# Altium schematic symbol library misc.SchLib: 25 symbols
Pins are listed as number, name and electrical type; pins without a type are passive.

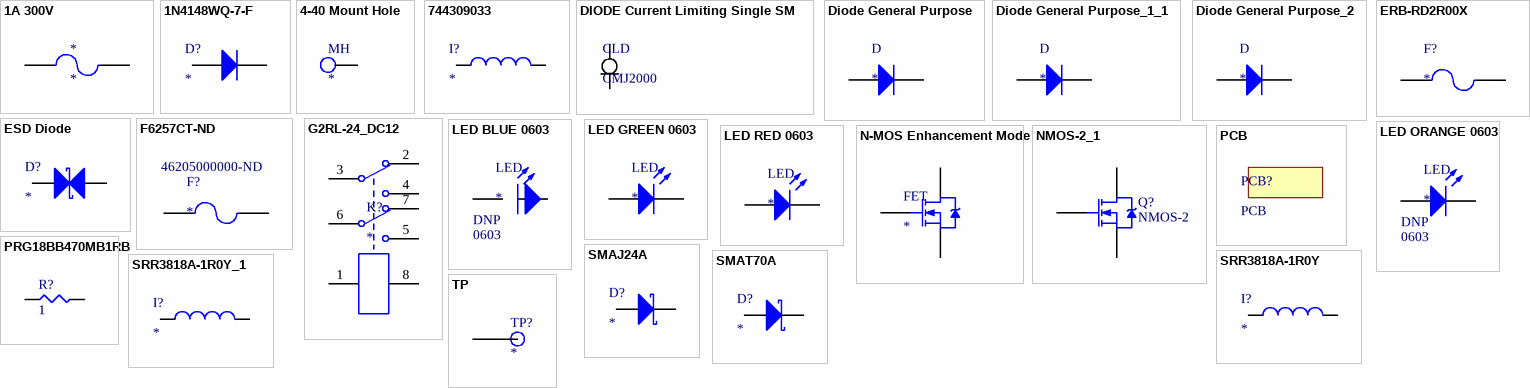
[diagram p0: symbols 1A 300V to TP]

## 1A 300V
designator *
ComponentLink1Description: Manufacturer Data Sheet; ComponentLink1URL: http://www.littelfuse.com/~/media/electronics/datasheets/fuses/littelfuse_fuse_462_datasheet.pdf.pdf; ComponentLink2Description: Digikey; ComponentLink2URL: https://www.digikey.com/product-detail/en/littelfuse-inc/46211000000/F6007CT-ND/4146345
footprint SMD-1206-RES
pins: 1, 2

## 1N4148WQ-7-F
designator D?
Diodes - General Purpose, Power, Switching SMT Fast Switching Diode; Manufacturer P/N: 1N4148WQ-7-F; Manufacturer: Diodes Inc.; Digikey Link: https://www.digikey.com/product-detail/en/diodes-incorporated/1N4148WQ-7-F/1N4148WQ-7-FDITR-ND/8136126; Digikey P/N: 1N4148WQ-7-FDITR-ND
footprint SODFL370X100-2N (SODFL, 2-Leads, Body 1.55x3.70mm, IPC Medium Density)
footprint INDM3838X18N (Molded Inductor, 2-Leads, Body 3.80x3.80mm, IPC Medium Density)
pins: 1 A, 2 K

## 4-40 Mount Hole
designator MH
footprint MH (#10 Mount Hole)
pins: 46

## 744309033
designator I?
FIXED IND 330NH 47.5A 0.165 MOHM; Manufacturer: Wurth; Manufacturer P/N: 744309033; Digikey Link: https://www.digikey.com/product-detail/en/wurth-electronics-inc/744309033/732-3006-1-ND/2626130; Digikey P/N: 732-3006-1-ND
footprint INDM140130X90N (Molded Inductor, 2-Leads, Body 14.00x13.00mm, IPC Medium Density)
pins: 1, 2

## DIODE Current Limiting Single SM
designator CLD, comment CMJ2000
DIODE CURRENT LIMITING SINGLE SM; Manufacturer: Central Semiconductor Corp; Manufacturer P/N: CMJ2000 TR; Vin Max: 100V; Current Output: 2mA; Do Not Populate: *; ComponentLink1Description: Digikey; ComponentLink1URL: https://www.digikey.com/product-detail/en/central-semiconductor-corp/CMJ2000-TR/CMJ2000CT-ND/5018676; Package / Case: SOD-123F; Digikey P/N: CMJ2000CT-ND
footprint SODFL350X80-2N (SODFL, 2-Leads, Body 1.60x3.50mm, IPC Medium Density)
pins: 1, 2

## Diode General Purpose
designator D
DIODE GEN PURP REV 1.6KV 300A DO9; Manufacturer: GeneSic Semiconductor; Manufacturer P/N: S300YR; Digikey P/N: 1242-1080-ND; Package / Case: DO-205AB, DO-9, Stud; Do Not Populate: *; ComponentLink1Description: Digikey; ComponentLink1URL: https://www.digikey.com/product-detail/en/genesic-semiconductor/S300YR/1242-1080-ND/3594361
pins: 1 A, 2 K

## Diode General Purpose_1_1
designator D
DIODE GEN PURP 100V 150MA SOD123; Manufacturer: Micro Commercial Co; Manufacturer P/N: 1N4148W-TP; ComponentLink1Description: Digikey; ComponentLink1URL: https://www.digikey.com/product-detail/en/micro-commercial-co/1N4148W-TP/1N4148WTPMSTR-ND/717196; Digikey P/N: 1N4148WTPMSTR-ND; Package / Case: SOD123; Do Not Populate: *
footprint SODFL370X135-2N (SODFL, 2-Leads, Body 1.60x3.70mm, IPC Medium Density)
pins: 1 A, 2 K

## Diode General Purpose_2
designator D
DIODE GEN PURP 20V 350MA SOD323; Manufacturer: Diodes Incorporated; Manufacturer P/N: SD103CWS-7-F; Digikey P/N: SD103CWS-FDIDKR-ND; Package / Case: SOD323; Do Not Populate: *; ComponentLink1Description: Digikey; ComponentLink1URL: https://www.digikey.com/product-detail/en/diodes-incorporated/SD103CWS-7-F/SD103CWS-FDIDKR-ND/1836772; ComponentLink2Description: Datasheet; ComponentLink2URL: https://www.diodes.com/assets/Datasheets/ds30101.pdf; ComponentLink3Description: Dimensions; ComponentLink3URL: https://www.diodes.com/assets/Package-Files/SOD323.pdf
footprint SODFL250X110-2N (SODFL, 2-Leads, Body 1.30x2.50mm, IPC Medium Density)
pins: 1 A, 2 K

## ERB-RD2R00X
designator F?
FUSE BOARD MOUNT 2A 32VDC 0402; Manufacturer: Panasonic; Manufacturer P/N: ERB-RD2R00X; Digikey P/N: P15123TR-ND; Digikey Link: https://www.digikey.com/product-detail/en/panasonic-electronic-components/ERB-RD2R00X/P15123TR-ND/2796785
footprint SMD-0402-RES
pins: 1, 2

## ESD Diode
designator D?
ESD Supressor; Manufacturer P/N: Panasonic; Manufacturer: EZAEG; Digikey P/N: P13571CT-ND; Digikey Link: https://www.digikey.com/product-detail/en/panasonic-electronic-components/EZA-EG2A50AX/P13571CT-ND/1137239
footprint SMD-0402-RES
pins: 1 A, 2 K

## F6257CT-ND
designator F?  Supplier Part Number 1: 46205000000-ND
FUSE BOARD MNT 500MA 350VAC/VDC; Manufacturer: Littelfuse; Manufacturer P/N: 46205000000; Voltage Rating (AC): 350V; Voltage Rating (DC): 250V; DC Cold Resistance: 227mR; Power Dissipation: 200W; Fuse Type: Board Mount (Cartridge Style Excluded); Approvals: UL,UMF; Digikey P/N: F6257CT-ND; Digikey Link: https://www.digikey.com/product-detail/en/littelfuse-inc/46205000000/F6257CT-ND/4331764; Supplier 1: Digi-Key; Manufacturer Part Number: 46205000000; Stock 1: 0; Mount: Surface Mount; Case/Package: SMD/SMT; Housing Material: Plastic; Min Operating Temperature: -40°C; Max Operating Temperature: 85°C; Package Quantity: 1500; Packaging: Tape and Reel; Current Rating: 500mA; Length: 10.5mm; Height: 0.177inch; Width: 0.177inch; Depth: 4.5mm; Lead Free: Lead Free; ComponentLink1URL: http://www.littelfuse.com/~/media/electronics/datasheets/fuses/littelfuse_fuse_462_datasheet.pdf.pdf?src-supplier=Digi-Key; ComponentLink1Description: http://www.littelfuse.com/~/media/electronics/datasheets/fuses/littelfuse_fuse_462_datasheet.pdf.pdf?src-supplier=Digi-Key; ComponentLink2URL: http://www.mouser.com/ds/2/240/Littelfuse_Fuse_462-33205.pdf?src-supplier=Mouser; ComponentLink2Description: http://www.mouser.com/ds/2/240/Littelfuse_Fuse_462-33205.pdf?src-supplier=Mouser; ComponentLink3URL: http://www.littelfuse.com/data/en/Data_Sheets/Littelfuse_Fuse_462.pdf?src-supplier=Digi-Key; ComponentLink3Description: http://www.littelfuse.com/data/en/Data_Sheets/Littelfuse_Fuse_462.pdf?src-supplier=Digi-Key
footprint F6257CT-ND (FUSE BOARD MNT 500MA 350VAC/VDC)
pins: 1, 2

## G2RL-24_DC12
designator K?
RELAY GEN PURPOSE DPDT 8A 12V; Manufacturer: Omron Electronics; Manufacturer P/N: G2RL-24 DC12; Digikey Link: https://www.digikey.com/product-detail/en/omron-electronics-inc-emc-div/G2RL-24-DC12/Z147-ND/307667; Digikey P/N: Z147-ND
footprint G2RL
pins: 1, 2, 3, 4, 5, 6, 7, 8

## LED BLUE 0603
designator LED  Package / Case: 0603
A-0603UBC; Manufacturer: Lighthouse LEDs; Minimum Quantity: 1; Unit Price (USD): 0.20; Manufacturer P/N: A-0603UBC; Color: BLUE; Datasheets: https://lighthouseleds.com/downloads/dl/file/id/10/0603_blue_smd_led_datasheet.pdf; Availability: In Stock; ComponentLink1Description: Manufacturer; ComponentLink1URL: https://lighthouseleds.com/0603-smd-led-blue-ultra-bright-140-mcd.html; DNP: DNP
footprint LED 0603 BLUE (Chip Diode, 2-Leads, Body 1.60x0.80mm)
pins: 1 A, 2 K

## LED GREEN 0603
designator LED
Manufacturer: Lite-On Inc.; Manufacturer P/N: LTST-C190KGKT; Digikey P/N: 160-1435-1-ND; Package / Case: 0603; Color: GREEN
footprint LED 0603 GREEN (Chip Diode, 2-Leads, Body 1.60x0.80mm, IPC Medium Density)
pins: 1 A, 2 K

## LED ORANGE 0603
designator LED  Package / Case: 0603
A-0603UOC; Manufacturer: Lighthouse LEDs; Minimum Quantity: 1; Manufacturer P/N: A-0603UOC; Color: ORANGE; ComponentLink1Description: Manufacturer; ComponentLink1URL: https://lighthouseleds.com/0603-smd-led-orange-ultra-bright-170-mcd.html; Datasheets: https://lighthouseleds.com/downloads/dl/file/id/11/0603_orange_amber_smd_led_datasheet.pdf; Availability: In Stock; DNP: DNP
footprint LED 0603 ORANGE (Chip Diode, 2-Leads, Body 1.60x0.80mm)
pins: 1 A, 2 K

## LED RED 0603
designator LED
Red 631nm LED Indication - Discrete 2V 0603 (1608 Metric); Manufacturer: Lite-On Inc.; Manufacturer P/N: LTST-C190KRKT; Digikey P/N: 160-1436-1-ND; Package / Case: 0603; Color: RED
footprint LED 0603 RED (Chip Diode, 2-Leads, Body 1.60x0.80mm, IPC Medium Density)
pins: 1 A, 2 K

## N-MOS Enhancement Mode
designator FET
MOSFET N-CH 60V 200MA SOT23-3; Manufacturer: Zetex; Manufacturer P/N: ZVN4106FTA; Digikey P/N: ZVN4106FCT-ND
footprint SOT95P240X110-3N (SOT23, 3-Leads, Body 2.90x2.40mm, Pitch 0.95mm, IPC Medium Density)
pins: 1 G, 2 D, 3 S

## NMOS-2_1
designator Q?, comment NMOS-2
N-Channel Power MOSFET; ComponentLink1Description: Manufacturer Link; ComponentLink1URL: http://www.irf.com/; Parameter 1: *; Parameter 2: *; Parameter 3: *; Parameter 4: *
pins: 1 G, 2 D, 3 S

## PCB
designator PCB?
footprint PCB

## PRG18BB470MB1RB
designator R?, comment 1
PTC RESET FUSE 6V 330MA 0603; Manufacturer P/N: PRG18BC1R0MM1RB; Manufacturer: Murata; Factory Stock: 0; Unit Price (USD): 0.10080; @ qty: 1500; Tolerance: ±1%; Power (Watts): 0.167W, 1/6W; Temperature Coefficient: ±250ppm/°C; Digikey Link: https://www.digikey.com/product-detail/en/murata-electronics-north-america/PRG18BC1R0MM1RB/490-8505-1-ND/4380768; Image: //media.digikey.com/Photos/Panasonic%20Photos/ERJ-PA2-Series.jpg; Digi-Key Part Number: 490-8505-1-ND; Quantity Available: 14922; Minimum Quantity: 1; Packaging: Cut Tape (CT); Part Status: Active; Value: 1; Composition: Thick Film; Features: Automotive AEC-Q200, Current Sense; Operating Temperature: -55°C ~ 125°C; Package / Case: 0603; Supplier Device Package: 0402; Size / Dimension: 0.039" L x 0.020" W (1.00mm x 0.50mm); Height - Seated (Max): 0.016" (0.40mm); Number of Terminations: 2; Failure Rate: -
footprint SMD-0603-RES
pins: 1, 2

## SMAJ24A
designator D?
TVS DIODE 24V 38.9V DO214AC; Manufacturer: LittelFuse Inc; Manufacturer P/N: SMAJ24A; Digikey P/N: SMAJ24ALFCT-ND; Digikey Link: https://www.digikey.com/product-detail/en/littelfuse-inc/SMAJ24A/SMAJ24ALFCT-ND/762500
footprint INDM5026X18N (Molded Inductor, 2-Leads, Body 5.04x2.59mm, IPC Medium Density)
pins: 1 A, 2 K

## SMAT70A
designator D?
TVS DIODE 70V 100V SMA; Manufacturer: Diodes Incorporated; Manufacturer P/N: SMAT70A-13-F; Digikey P/N: SMAT70A-FDICT-ND; Digikey Link: https://www.digikey.com/product-detail/en/diodes-incorporated/SMAT70A-13-F/SMAT70A-FDICT-ND/804910
footprint SMAT70A
pins: 1 A, 2 K

## SRR3818A-1R0Y
designator I?
FIXED IND 1UH 3.6A 37 MOHM SMD; Manufacturer: Bourns Inc.; Manufacturer P/N: SRR3818A-1R0Y; Digikey Link: https://www.digikey.com/product-detail/en/bourns-inc/SRR3818A-1R0Y/SRR3818A-1R0YCT-ND/7556036; Digikey P/N: SRR3818A-1R0YCT-ND
footprint INDM3838X18N (Molded Inductor, 2-Leads, Body 3.80x3.80mm, IPC Medium Density)
pins: 1, 2

## SRR3818A-1R0Y_1
designator I?
FIXED IND 1UH 3.6A 37 MOHM SMD; Manufacturer: Bourns Inc.; Manufacturer P/N: SRR3818A-1R0Y; Digikey Link: https://www.digikey.com/product-detail/en/bourns-inc/SRR3818A-1R0Y/SRR3818A-1R0YCT-ND/7556036; Digikey P/N: SRR3818A-1R0YCT-ND
footprint INDM3838X18N (Molded Inductor, 2-Leads, Body 3.80x3.80mm, IPC Medium Density)
pins: 1, 2

## TP
designator TP?
SMD TEST POINT
footprint Test Point (SMD Test Point)
pins: 1